# EAGLE library part 74*4040 (library steves)
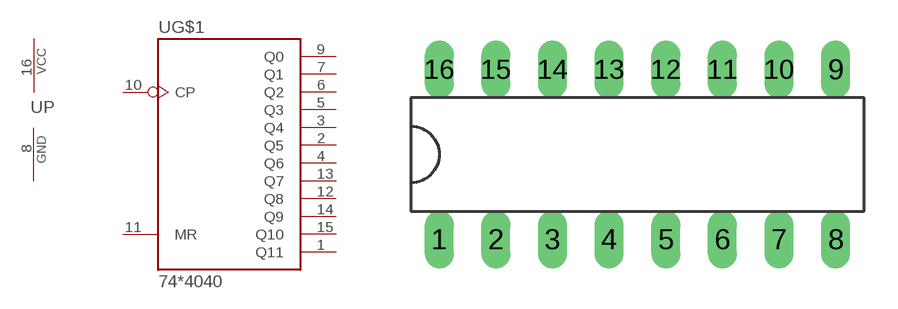
[diagram p19: symbol with the pads of DIL16; footprint DIL16]

Designator prefix U; gates G$1=LOGIC-4040 P=PWRN

## 74HC4040N, 74HCT4040N  [DIL16]
1  G$1:Q11  out
2  G$1:Q5  out
3  G$1:Q4  out
4  G$1:Q6  out
5  G$1:Q3  out
6  G$1:Q2  out
7  G$1:Q1  out
8  P:GND  pwr
9  G$1:Q0  out
10  G$1:CP  in
11  G$1:MR  in
12  G$1:Q8  out
13  G$1:Q7  out
14  G$1:Q9  out
15  G$1:Q10  out
16  P:VCC  pwr

## Footprint DIL16 (pad centres in mm)
Standard 16-pin DIL pad, 0.3 spacing.
drill 0.8 long: 1 0,0; 2 2.54,0; 3 5.08,0; 4 7.62,0; 5 10.16,0; 6 12.7,0; 7 15.24,0; 8 17.78,0; 9 17.78,7.62; 10 15.24,7.62; 11 12.7,7.62; 12 10.16,7.62; 13 7.62,7.62; 14 5.08,7.62; 15 2.54,7.62; 16 0,7.62